# EAGLE library part IRF7316 (library transistor-fet)
Dual P-Channel MOSFET
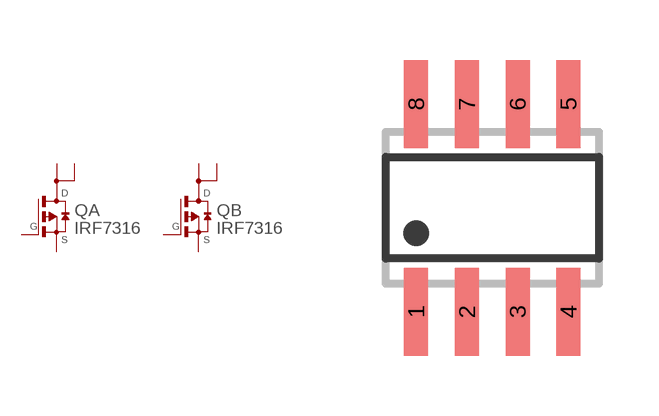
[diagram p0: symbol with the pads of SO08; footprint SO08]

Designator prefix Q; gates A=EMOS_ND2 B=EMOS_ND2

## IRF7316  [SO08]
1  B:S  pas
2  B:G  pas
3  A:S  pas
4  A:G  pas
5  A:D  pas
6  A:D2  pas
7  B:D  pas
8  B:D2  pas

## Footprint SO08 (pad centres in mm)
SMALL OUTLINE INTEGRATED CIRCUIT body 3.9 mm/JEDEC MS-012AA
smd 0.6 x 2.2: 1 -1.905,-2.6; 2 -0.635,-2.6; 3 0.635,-2.6; 4 1.905,-2.6; 5 1.905,2.6; 6 0.635,2.6; 7 -0.635,2.6; 8 -1.905,2.6